# Altium schematic symbol library MAIN_SCH.SchLib: 26 symbols
Pins are listed as number, name and electrical type; pins without a type are passive.

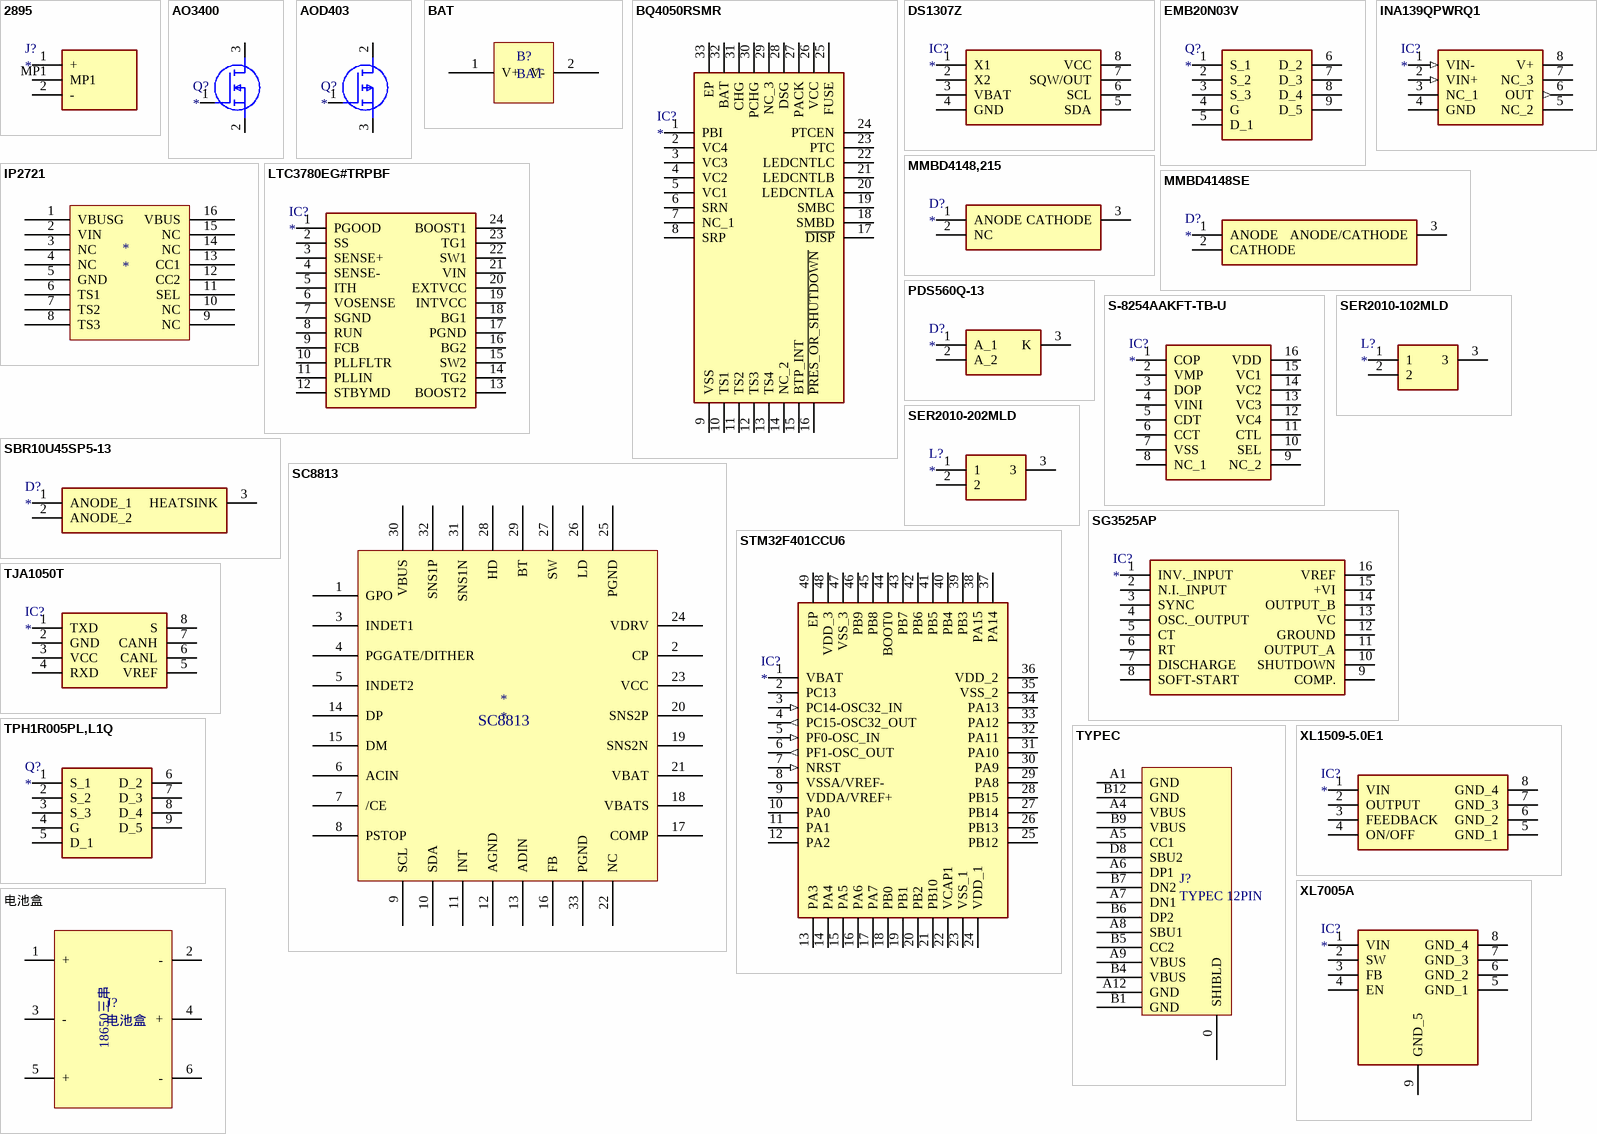
[diagram p0: symbols 2895 to 电池盒]

## 2895
designator J?
Connector; Manufacturer_Name: Keystone Electronics; Manufacturer_Part_Number: 2895; Datasheet Link: https://www.mouser.com/datasheet/2/215/Keystone_Electronics_04082019_2895-1551354.pdf; Height: 2.95mm; Mouser Part Number: 534-2895; Mouser Price/Stock: https://www.mouser.co.uk/ProductDetail/Keystone-Electronics/2895/?qs=u16ybLDytRYxJrEfvGnUaA%3D%3D
footprint 2895
pins: 1 +, 2 -, MP1

## AO3400
designator Q?
MOSFET (N-Channel); Manufacturer_Name: Alpha & Omega Semiconductors; Manufacturer_Part_Number: AO3400; Datasheet Link: http://aosmd.com/res/data_sheets/AO3400.pdf; Height: 1.25mm; Arrow Part Number: AO3400; Arrow Price/Stock: https://www.arrow.com/en/products/ao3400/alpha-and-omega-semiconductor
footprint SOT95P280X125-3N
pins: 1 G, 2 S, 3 D

## AOD403
designator Q?
MOSFET (P-Channel); Manufacturer_Name: Alpha & Omega Semiconductors; Manufacturer_Part_Number: AOD403; Datasheet Link: http://aosmd.com/res/data_sheets/AOD403.pdf; Height: 2mm; Arrow Part Number: AOD403; Arrow Price/Stock: https://www.arrow.com/en/products/aod403/alpha-and-omega-semiconductor
footprint AOD480
pins: 1 G, 2 D, 3 S

## BAT
designator B?
footprint bat
pins: 1 V+, 2 V-

## BQ4050RSMR
designator IC?
Integrated Circuit; Manufacturer_Name: Texas Instruments; Manufacturer_Part_Number: BQ4050RSMR; Description: 1-4 Series CEDV Battery Fuel (Gas) Gauge; Datasheet Link: http://www.ti.com/lit/gpn/bq4050; Height: 1mm; Mouser Part Number: 595-BQ4050RSMR; Mouser Price/Stock: https://www.mouser.co.uk/ProductDetail/Texas-Instruments/BQ4050RSMR/?qs=F66ExNIg9roani5SWUUvag%3D%3D; Arrow Part Number: BQ4050RSMR; Arrow Price/Stock: https://www.arrow.com/en/products/bq4050rsmr/texas-instruments
footprint QFN40P400X400X100-33N-D
pins: 1 PBI, 2 VC4, 3 VC3, 4 VC2, 5 VC1, 6 SRN, 7 NC_1, 8 SRP, 9 VSS, 10 TS1, 11 TS2, 12 TS3, 13 TS4, 14 NC_2, 15 BTP_INT, 16 ~{PRES_OR_SHUTDOWN}, 17 ~{DISP}, 18 SMBD, 19 SMBC, 20 LEDCNTLA, 21 LEDCNTLB, 22 LEDCNTLC, 23 PTC, 24 PTCEN, 25 FUSE, 26 VCC, 27 PACK, 28 DSG, 29 NC_3, 30 PCHG, 31 CHG, 32 BAT, 33 EP

## DS1307Z
designator IC?
Integrated Circuit; Manufacturer_Name: Maxim Integrated; Manufacturer_Part_Number: DS1307Z; Datasheet Link: https://datasheets.maximintegrated.com/en/ds/DS1307.pdf; Height: 1.75mm; Mouser Part Number: 700-DS1307Z-NR; Mouser Price/Stock: https://www.mouser.co.uk/ProductDetail/Maxim-Integrated/DS1307Z/?qs=1eQvB6Dk1vjw3IRIE9TdIQ%3D%3D
footprint SOIC127P600X175-8N
pins: 1 X1, 2 X2, 3 VBAT, 4 GND, 5 SDA, 6 SCL, 7 SQW/OUT, 8 VCC

## EMB20N03V
designator Q?
MOSFET (N-Channel); Manufacturer_Name: Excelliance MOS Corporation; Manufacturer_Part_Number: EMB20N03V; Datasheet Link: https://datasheet.lcsc.com/szlcsc/1912111437_EMC-EMB20N03V_C461950.pdf; Height: 0.9mm
footprint EMB20N03V
pins: 1 S_1, 2 S_2, 3 S_3, 4 G, 5 D_1, 6 D_2, 7 D_3, 8 D_4, 9 D_5

## INA139QPWRQ1
designator IC?
Integrated Circuit; Manufacturer_Name: Texas Instruments; Manufacturer_Part_Number: INA139QPWRQ1; Datasheet Link: http://www.ti.com/lit/gpn/ina139-q1; Height: 1.2mm; Mouser Part Number: 595-INA139QPWRQ1; Mouser Price/Stock: https://www.mouser.co.uk/ProductDetail/Texas-Instruments/INA139QPWRQ1?qs=rNOSrj6uCs3MaZDCmxlPDw%3D%3D; Arrow Part Number: INA139QPWRQ1; Arrow Price/Stock: https://www.arrow.com/en/products/ina139qpwrq1/texas-instruments
footprint SOP65P640X120-8N
pins: 1 VIN- (in), 2 VIN+ (in), 3 NC_1, 4 GND (power), 5 NC_2, 6 OUT (out), 7 NC_3, 8 V+ (power)

## IP2721
designator *
pins: 1 VBUSG, 2 VIN, 3 NC, 4 NC, 5 GND, 6 TS1, 7 TS2, 8 TS3, 9 NC, 10 NC, 11 SEL, 12 CC2, 13 CC1, 14 NC, 15 NC, 16 VBUS

## LTC3780EG#TRPBF
designator IC?
Integrated Circuit; Manufacturer_Name: Analog Devices; Manufacturer_Part_Number: LTC3780EG#TRPBF; Datasheet Link: https://www.arrow.com/en/products/ltc3780egtrpbf/analog-devices; Height: 2mm; Mouser Part Number: 584-LTC3780EG#TRPBF; Mouser Price/Stock: https://www.mouser.co.uk/ProductDetail/Analog-Devices/LTC3780EGTRPBF/?qs=hVkxg5c3xu%252B2zWuQ0UDI2Q%3D%3D; Arrow Part Number: LTC3780EG#TRPBF; Arrow Price/Stock: https://www.arrow.com/en/products/ltc3780egtrpbf/analog-devices
footprint SOP65P780X200-24N
pins: 1 PGOOD, 2 SS, 3 SENSE+, 4 SENSE-, 5 ITH, 6 VOSENSE, 7 SGND, 8 RUN, 9 FCB, 10 PLLFLTR, 11 PLLIN, 12 STBYMD, 13 BOOST2, 14 TG2, 15 SW2, 16 BG2, 17 PGND, 18 BG1, 19 INTVCC, 20 EXTVCC, 21 VIN, 22 SW1, 23 TG1, 24 BOOST1

## MMBD4148,215
designator D?
Diode; Manufacturer_Name: Nexperia; Manufacturer_Part_Number: MMBD4148,215; Datasheet Link: https://assets.nexperia.com/documents/data-sheet/MMBD4148.pdf; Height: 1.1mm; Mouser Part Number: 771-M771-MBD4148215; Mouser Price/Stock: https://www.mouser.co.uk/ProductDetail/Nexperia/MMBD4148215/?qs=sSXnapcmqSsdmDrTZtokWA%3D%3D; Arrow Part Number: MMBD4148,215; Arrow Price/Stock: https://www.arrow.com/en/products/mmbd4148215/nexperia
footprint SOT95P230X110-3N
pins: 1 ANODE, 2 NC, 3 CATHODE

## MMBD4148SE
designator D?
Diode; Manufacturer_Name: ON Semiconductor; Manufacturer_Part_Number: MMBD4148SE; Datasheet Link: http://www.onsemi.com/pub/Collateral/MMBD4148SE-D.pdf; Height: 1.2mm; Mouser Part Number: 512-MMBD4148SE; Mouser Price/Stock: https://www.mouser.co.uk/ProductDetail/ON-Semiconductor-Fairchild/MMBD4148SE/?qs=E58pcOqB2RIih%2Fj%252BJ4dF7g%3D%3D; Arrow Part Number: MMBD4148SE; Arrow Price/Stock: https://www.arrow.com/en/products/mmbd4148se/on-semiconductor
footprint SOT95P240X120-3N
pins: 1 ANODE, 2 CATHODE, 3 ANODE/CATHODE

## PDS560Q-13
designator D?
Schottky Diode; Manufacturer_Name: Diodes Inc.; Manufacturer_Part_Number: PDS560Q-13; Datasheet Link: https://www.diodes.com/assets/Datasheets/ds30480.pdf; Height: 1mm; Mouser Part Number: 621-PDS560Q-13; Mouser Price/Stock: https://www.mouser.co.uk/ProductDetail/Diodes-Incorporated/PDS560Q-13?qs=vkMqrgFpRaiRq2%2FHyPfUvA%3D%3D; Arrow Part Number: PDS560Q-13; Arrow Price/Stock: https://www.arrow.com/en/products/pds560q-13/diodes-incorporated
footprint PDS104013
pins: 1 A_1, 2 A_2, 3 K

## S-8254AAKFT-TB-U
designator IC?
Integrated Circuit; Manufacturer_Name: ABLIC U.S.A. Inc.; Manufacturer_Part_Number: S-8254AAKFT-TB-U; Datasheet Link: https://www.ablic.com/en/doc/datasheet/battery_protection/S8254A_E.pdf; Height: 1.1mm; Mouser Part Number: 628-S-8254AAKFT-TB-G; Mouser Price/Stock: https://www.mouser.com/Search/Refine.aspx?Keyword=628-S-8254AAKFT-TB-G
footprint SOP65P640X110-16N
pins: 1 COP, 2 VMP, 3 DOP, 4 VINI, 5 CDT, 6 CCT, 7 VSS, 8 NC_1, 9 NC_2, 10 SEL, 11 CTL, 12 VC4, 13 VC3, 14 VC2, 15 VC1, 16 VDD

## SBR10U45SP5-13
designator D?
Schottky Diode; Manufacturer_Name: Diodes Inc.; Manufacturer_Part_Number: SBR10U45SP5-13; Datasheet Link: https://www.diodes.com/assets/Datasheets/SBR10U45SP5.pdf; Mouser Part Number: 621-SBR10U45SP5-13; Mouser Price/Stock: https://www.mouser.co.uk/ProductDetail/Diodes-Incorporated/SBR10U45SP5-13/?qs=oUsD4qhOtFzkwQR1w2y69g%3D%3D; Arrow Part Number: SBR10U45SP5-13; Arrow Price/Stock: https://www.arrow.com/en/products/sbr10u45sp5-13/diodes-incorporated
footprint POWERDI5
pins: 1 ANODE_1, 2 ANODE_2, 3 HEATSINK

## SC8813
designator *
pins: 1 GPO, 2 CP, 3 INDET1, 4 PGGATE/DITHER, 5 INDET2, 6 ACIN, 7 /CE, 8 PSTOP, 9 SCL, 10 SDA, 11 INT, 12 AGND, 13 ADIN, 14 DP, 15 DM, 16 FB, 17 COMP, 18 VBATS, 19 SNS2N, 20 SNS2P, 21 VBAT, 22 NC, 23 VCC, 24 VDRV, 25 PGND, 26 LD, 27 SW, 28 HD, 29 BT, 30 VBUS, 31 SNS1N, 32 SNS1P, 33 PGND

## SER2010-102MLD
designator L?
Inductor; Manufacturer_Name: COILCRAFT; Manufacturer_Part_Number: SER2010-102MLD; Datasheet Link: https://www.coilcraft.com/pdfs/ser2000.pdf; Mouser Part Number: 994-SER2010-102MLD; Mouser Price/Stock: https://www.mouser.com/Search/Refine.aspx?Keyword=994-SER2010-102MLD
footprint SER2009-202MLB
pins: 1, 2, 3

## SER2010-202MLD
designator L?
Inductor; Manufacturer_Name: COILCRAFT; Manufacturer_Part_Number: SER2010-202MLD; Datasheet Link: https://componentsearchengine.com/Datasheets/1/SER2010-202MLD.pdf; Height: 9.4mm; Mouser Part Number: 994-SER2010-202MLD; Mouser Price/Stock: https://www.mouser.com/Search/Refine.aspx?Keyword=994-SER2010-202MLD
footprint SER2010202MLD
pins: 1, 2, 3

## SG3525AP
designator IC?
Integrated Circuit; Manufacturer_Name: STMicroelectronics; Manufacturer_Part_Number: SG3525AP; Datasheet Link: http://www.st.com/st-web-ui/static/active/en/resource/technical/document/datasheet/CD00000958.pdf; Height: 1.75mm; Mouser Part Number: 511-SG3525AP; Mouser Price/Stock: https://www.mouser.co.uk/ProductDetail/STMicroelectronics/SG3525AP/?qs=lgHKUCmDFtgKpGE934d0CQ%3D%3D; Arrow Part Number: SG3525AP; Arrow Price/Stock: https://www.arrow.com/en/products/sg3525ap/stmicroelectronics
footprint SOIC127P600X175-16N
pins: 1 INV._INPUT, 2 N.I._INPUT, 3 SYNC, 4 OSC._OUTPUT, 5 CT, 6 RT, 7 DISCHARGE, 8 SOFT-START, 9 COMP., 10 SHUTDOWN, 11 OUTPUT_A, 12 GROUND, 13 VC, 14 OUTPUT_B, 15 +VI, 16 VREF

## STM32F401CCU6
designator IC?
Integrated Circuit; Manufacturer_Name: STMicroelectronics; Manufacturer_Part_Number: STM32F401CCU6; Datasheet Link: http://www.st.com/web/en/resource/technical/document/datasheet/DM00086815.pdf; Height: 0.65mm; Mouser Part Number: 511-STM32F401CCU6; Mouser Price/Stock: https://www.mouser.co.uk/ProductDetail/STMicroelectronics/STM32F401CCU6/?qs=DqCdCwOw4%2F5VrOZQxO795A%3D%3D; Arrow Part Number: STM32F401CCU6; Arrow Price/Stock: https://www.arrow.com/en/products/stm32f401ccu6/stmicroelectronics
footprint QFN50P700X700X65-49N-D
pins: 1 VBAT, 2 PC13, 3 PC14-OSC32_IN (in), 4 PC15-OSC32_OUT (out), 5 PF0-OSC_IN (in), 6 PF1-OSC_OUT (out), 7 NRST (in), 8 VSSA/VREF- (power), 9 VDDA/VREF+ (power), 10 PA0, 11 PA1, 12 PA2, 13 PA3, 14 PA4, 15 PA5, 16 PA6, 17 PA7, 18 PB0, 19 PB1, 20 PB2, 21 PB10, 22 VCAP1, 23 VSS_1 (power), 24 VDD_1 (power), 25 PB12, 26 PB13, 27 PB14, 28 PB15, 29 PA8, 30 PA9, 31 PA10, 32 PA11, 33 PA12, 34 PA13, 35 VSS_2 (power), 36 VDD_2 (power), 37 PA14, 38 PA15, 39 PB3, 40 PB4, 41 PB5, 42 PB6, 43 PB7, 44 BOOT0, 45 PB8, 46 PB9, 47 VSS_3 (power), 48 VDD_3 (power), 49 EP

## TJA1050T
designator IC?
Integrated Circuit; Manufacturer_Name: Nexperia; Manufacturer_Part_Number: TJA1050T; Description: CAN Interface IC TJA1050T/CM/SO8/REEL 13" Q1/T1; Datasheet Link: http://docs-emea.rs-online.com/webdocs/0425/0900766b80425301.pdf; Height: 1.75mm; Mouser Part Number: N/A; Mouser Price/Stock: https://www.mouser.com/Search/Refine.aspx?Keyword=N%2FA
footprint SOIC127P600X175-8N
pins: 1 TXD, 2 GND, 3 VCC, 4 RXD, 5 VREF, 6 CANL, 7 CANH, 8 S

## TPH1R005PL,L1Q
designator Q?
MOSFET (N-Channel); Manufacturer_Name: Toshiba; Manufacturer_Part_Number: TPH1R005PL,L1Q; Datasheet Link: http://toshiba.semicon-storage.com/info/docget.jsp?did=15643&prodName=TPH1R005PL; Height: 1mm; Mouser Part Number: 757-TPH1R005PLL1Q; Mouser Price/Stock: https://www.mouser.co.uk/ProductDetail/Toshiba/TPH1R005PLL1Q?qs=BcfjnG7NVaWW34hoZGQwzg%3D%3D; Arrow Part Number: TPH1R005PL,L1Q; Arrow Price/Stock: https://www.arrow.com/en/products/tph1r005pll1q/toshiba
footprint TPH1R306PLL1Q
pins: 1 S_1, 2 S_2, 3 S_3, 4 G, 5 D_1, 6 D_2, 7 D_3, 8 D_4, 9 D_5

## TYPEC
designator J?, comment TYPEC 12PIN
TPYEC接口 12PIN 的
footprint TYPEC_16P
pins: 0 SHIBLD, A1 GND, A4 VBUS, A5 CC1, A6 DP1, A7 DN1, A8 SBU1, A9 VBUS, A12 GND, B1 GND, B4 VBUS, B5 CC2, B6 DP2, B7 DN2, B9 VBUS, B12 GND, D8 SBU2

## XL1509-5.0E1
designator IC?
Integrated Circuit; Manufacturer_Name: XLSEMI; Manufacturer_Part_Number: XL1509-5.0E1; Datasheet Link: https://datasheet.lcsc.com/szlcsc/XLSEMI-XL1509-5-0E1_C61063.pdf; Height: 1.75mm
footprint SOIC127P600X175-8N
pins: 1 VIN, 2 OUTPUT, 3 FEEDBACK, 4 ON/OFF, 5 GND_1, 6 GND_2, 7 GND_3, 8 GND_4

## XL7005A
designator IC?
Integrated Circuit; Manufacturer_Name: XLSEMI; Manufacturer_Part_Number: XL7005A; Datasheet Link: http://www.xlsemi.com/datasheet/XL7005A%20datasheet-Chinese.pdf; Height: 1.75mm
footprint SOIC127P600X175-9N
pins: 1 VIN, 2 SW, 3 FB, 4 EN, 5 GND_1, 6 GND_2, 7 GND_3, 8 GND_4, 9 GND_5

## 电池盒
designator J?
pins: 1 +, 2 -, 3 -, 4 +, 5 +, 6 -
text: 18650三串